# Altium schematic symbol library 5019530307.Schlib: 1 symbol
Pins are listed as number, name and electrical type; pins without a type are passive.

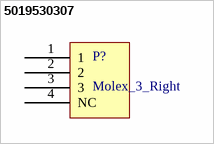
[diagram p0: symbol 5019530307]

## 5019530307
designator P?, comment Molex_3_Right
3 Pin Right Molex PCB Header
pins: 1, 2, 3, 4 NC